# EAGLE library part XC9572XL-PC44 (library lightuino3.lbrlightuino3.1)
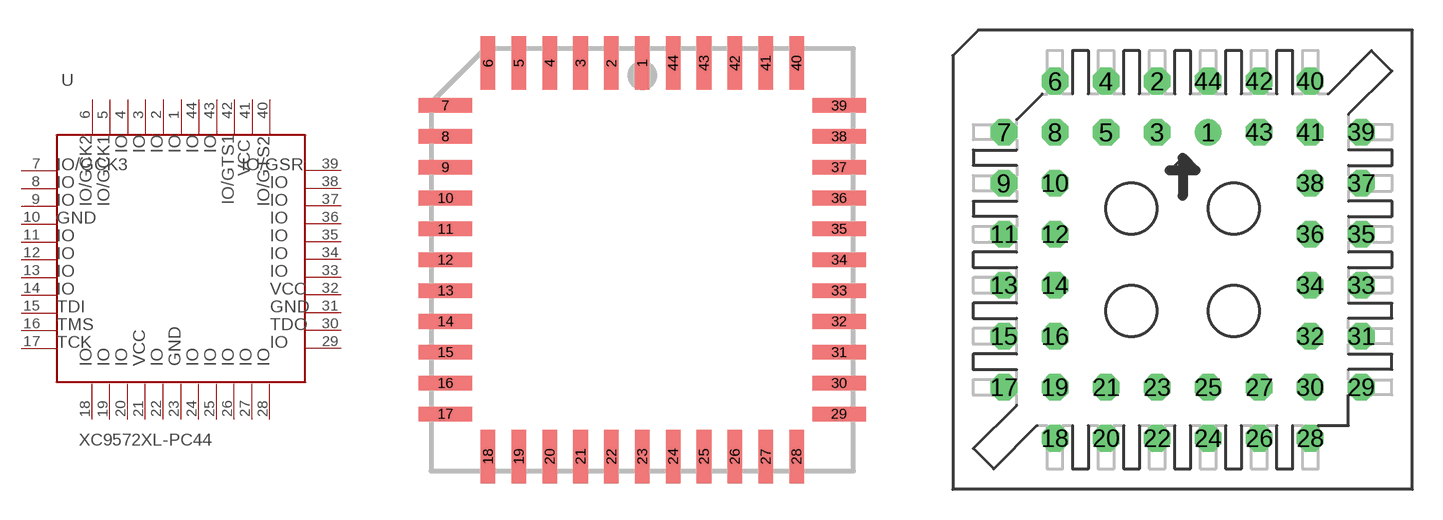
[diagram p8: symbol with the pads of PLCC-44; footprints PLCC-44, PLCC-S44]

Designator prefix -

## XC9572XL-PC44PLCC44  [PLCC-44]
1  P$1
2  P$2
3  P$3
4  P$4
5  P$5
6  P$6
7  P$7
8  P$8
9  P$9
10  P$10
11  P$11
12  P$12
13  P$13
14  P$14
15  P$15
16  P$16
17  P$17
18  P$18
19  P$19
20  P$20
21  P$21
22  P$22
23  P$23
24  P$24
25  P$25
26  P$26
27  P$27
28  P$28
29  P$29
30  P$30
31  P$31
32  P$32
33  P$33
34  P$34
35  P$35
36  P$36
37  P$37
38  P$38
39  P$39
40  P$40
41  P$41
42  P$42
43  P$43
44  P$44

## XC9572XL-PC44PLCC-S44  [PLCC-S44]
Pads as for PLCC-44

## XC9572XL-PC44PLCC-SM44  [PLCC-SM44]
Pads as for PLCC-44

## XC9572XL-PC44  [QFP-44]

## Footprint PLCC-44 (pad centres in mm)
smd 0.6 x 2.2: 1 0,8.1; 2 -1.27,8.1; 3 -2.54,8.1; 4 -3.81,8.1; 5 -5.08,8.1; 6 -6.35,8.1; 18 -6.35,-8.1; 19 -5.08,-8.1; 20 -3.81,-8.1; 21 -2.54,-8.1; 22 -1.27,-8.1; 23 0,-8.1; 24 1.27,-8.1; 25 2.54,-8.1; 26 3.81,-8.1; 27 5.08,-8.1; 28 6.35,-8.1; 40 6.35,8.1; 41 5.08,8.1; 42 3.81,8.1; 43 2.54,8.1; 44 1.27,8.1
smd 2.2 x 0.6: 7 -8.1,6.35; 8 -8.1,5.08; 9 -8.1,3.81; 10 -8.1,2.54; 11 -8.1,1.27; 12 -8.1,0; 13 -8.1,-1.27; 14 -8.1,-2.54; 15 -8.1,-3.81; 16 -8.1,-5.08; 17 -8.1,-6.35; 29 8.1,-6.35; 30 8.1,-5.08; 31 8.1,-3.81; 32 8.1,-2.54; 33 8.1,-1.27; 34 8.1,0; 35 8.1,1.27; 36 8.1,2.54; 37 8.1,3.81; 38 8.1,5.08; 39 8.1,6.35

## Footprint PLCC-S44 (pad centres in mm)
drill 0.813 round: 1 1.27,5.08
drill 0.813 octagon: 2 -1.27,7.62; 3 -1.27,5.08; 4 -3.81,7.62; 5 -3.81,5.08; 6 -6.35,7.62; 7 -8.89,5.08; 8 -6.35,5.08; 9 -8.89,2.54; 10 -6.35,2.54; 11 -8.89,0; 12 -6.35,0; 13 -8.89,-2.54; 14 -6.35,-2.54; 15 -8.89,-5.08; 16 -6.35,-5.08; 17 -8.89,-7.62; 18 -6.35,-10.16; 19 -6.35,-7.62; 20 -3.81,-10.16; 21 -3.81,-7.62; 22 -1.27,-10.16; 23 -1.27,-7.62; 24 1.27,-10.16; 25 1.27,-7.62; 26 3.81,-10.16; 27 3.81,-7.62; 28 6.35,-10.16; 29 8.89,-7.62; 30 6.35,-7.62; 31 8.89,-5.08; 32 6.35,-5.08; 33 8.89,-2.54; 34 6.35,-2.54; 35 8.89,0; 36 6.35,0; 37 8.89,2.54; 38 6.35,2.54; 39 8.89,5.08; 40 6.35,7.62; 41 6.35,5.08; 42 3.81,7.62; 43 3.81,5.08; 44 1.27,7.62

## Footprint PLCC-SM44 (pad centres in mm)
smd 0.66 x 2.591: 1 0,8.89; 2 -1.27,8.89; 3 -2.54,8.89; 4 -3.81,8.89; 5 -5.08,8.89; 6 -6.35,8.89; 18 -6.35,-8.89; 19 -5.08,-8.89; 20 -3.81,-8.89; 21 -2.54,-8.89; 22 -1.27,-8.89; 23 0,-8.89; 24 1.27,-8.89; 25 2.54,-8.89; 26 3.81,-8.89; 27 5.08,-8.89; 28 6.35,-8.89; 40 6.35,8.89; 41 5.08,8.89; 42 3.81,8.89; 43 2.54,8.89; 44 1.27,8.89
smd 2.591 x 0.66: 7 -8.89,6.35; 8 -8.89,5.08; 9 -8.89,3.81; 10 -8.89,2.54; 11 -8.89,1.27; 12 -8.89,0; 13 -8.89,-1.27; 14 -8.89,-2.54; 15 -8.89,-3.81; 16 -8.89,-5.08; 17 -8.89,-6.35; 29 8.89,-6.35; 30 8.89,-5.08; 31 8.89,-3.81; 32 8.89,-2.54; 33 8.89,-1.27; 34 9.017,0; 35 8.89,1.27; 36 8.89,2.54; 37 8.89,3.81; 38 8.89,5.08; 39 8.89,6.35

## Footprint QFP-44 (pad centres in mm)
Quad Flat Package
smd 0.4 x 2.2: 1 -4,-6.25; 2 -3.2,-6.25; 3 -2.4,-6.25; 4 -1.6,-6.25; 5 -0.8,-6.25; 6 0,-6.25; 7 0.8,-6.25; 8 1.6,-6.25; 9 2.4,-6.24; 10 3.2,-6.25; 11 4,-6.25; 23 4,6.25; 24 3.2,6.25; 25 2.4,6.26; 26 1.6,6.25; 27 0.8,6.25; 28 0,6.25; 29 -0.8,6.25; 30 -1.6,6.25; 31 -2.4,6.25; 32 -3.2,6.25; 33 -4,6.25
smd 2.2 x 0.4: 12 6.75,-4; 13 6.75,-3.2; 14 6.75,-2.4; 15 6.75,-1.6; 16 6.75,-0.8; 17 6.75,0; 18 6.75,0.8; 19 6.75,1.6; 20 6.74,2.4; 21 6.75,3.2; 22 6.75,4; 34 -6.75,4; 35 -6.75,3.2; 36 -6.76,2.4; 37 -6.75,1.6; 38 -6.75,0.8; 39 -6.75,0; 40 -6.75,-0.8; 41 -6.75,-1.6; 42 -6.75,-2.4; 43 -6.75,-3.2; 44 -6.75,-4